# Altium integrated library TPS61200.IntLib: 1 symbol
Pins are listed as number, name and electrical type; pins without a type are passive.

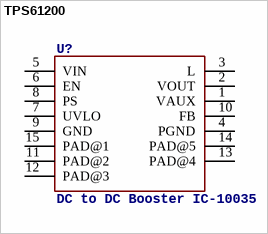
[diagram p0: symbol TPS61200]

## TPS61200
designator U?, comment DC to DC Booster IC-10035
footprint QFN-10_PAD
pins: 1 VAUX, 2 VOUT, 3 L, 4 PGND (oe), 5 VIN (oe), 6 EN, 7 UVLO, 8 PS, 9 GND (oe), 10 FB, 11 PAD@2 (oe), 12 PAD@3 (oe), 13 PAD@4 (oe), 14 PAD@5 (oe), 15 PAD@1 (oe)